# Altium footprint library zynq.PcbLib: 126 footprints (part 2 of 8)
Each footprint in its own frame and in the unit in brackets; x right, y up, seen from the top. Pads: shape width x height; smd on the part's side, far side on the other; paste and mask are expansions set on the pad; w line width, h text height; cw(c..) or ccw(c..) is an arc to the next point about the centre after c.
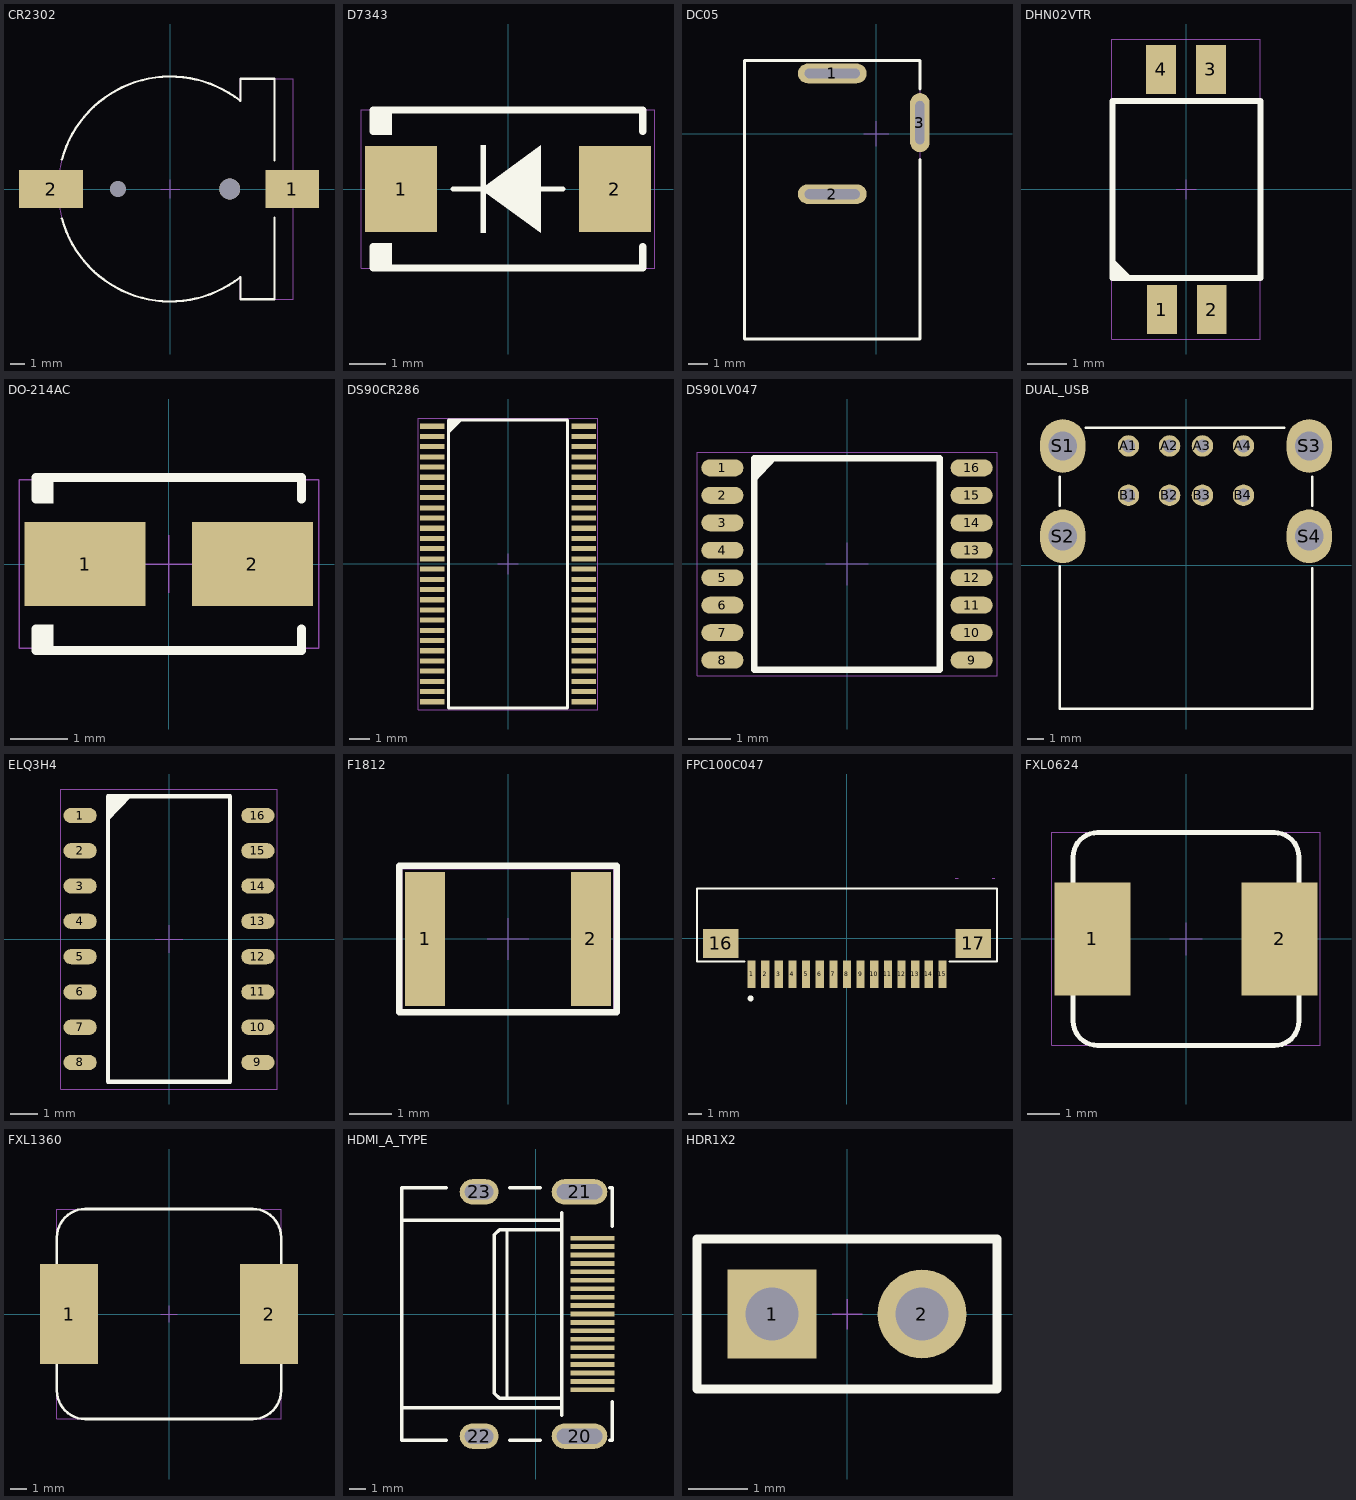
[diagram p1: the footprints below, top view; thin cyan lines are the x and y axes]

## CR2302 [mm]
pads (4):
  rect 3.6x2.55 smd: 1(8.17,0)
  rect 4.3x2.55 smd: 2(-8.01,0)
  round 1.05 hole 1.05 unplated: ""(-3.52,0)
  round 1.4 hole 1.4 unplated: ""(3.98,0)
Top Overlay:
  lines w0.152: -7.284,-1.987 ccw(c0,0) 4.686,-5.92 ; -7.284,1.987 cw(c0,0) 4.686,5.92 ; 4.699,-5.909 4.699,-7.4 6.985,-7.4 6.985,-1.905 ; 4.699,5.909 4.699,7.4 6.985,7.4 6.985,1.905
Mechanical 15:
  lines w0.025: -0.635,0 0.635,0 ; 0,-0.635 0,0.635 ; 4.686,-5.92 cw(c0,0) 4.699,5.909 4.699,7.4 8.255,7.4 8.255,-7.4 4.699,-7.4 4.699,-5.909

## D7343 [mm] "D7343"
pads (2):
  rect 2x2.4 smd: 1(-2.975,0) 2(2.975,0)
Top Overlay:
  rectangle: -0.762,-1.219 -0.61,1.219
  rectangle: -3.75,-2.2 -3.226,-1.499
  rectangle: -3.75,1.499 -3.226,2.2
  region: -0.762,0 0.914,1.219 0.914,-1.219
  lines w0.152: -1.524,0 -0.762,0 ; 0.914,0 1.524,0
  lines w0.2: -3.75,-1.6 -3.75,-2.2 3.75,-2.2 3.75,-1.6 ; -3.75,1.6 -3.75,2.2 3.75,2.2 3.75,1.6
Mechanical 15:
  lines w0.025: -0.5,0 0.5,0 ; 0,-0.5 0,0.5 ; -4.089,-2.2 4.089,-2.2 4.089,2.2 -4.089,2.2 -4.089,-2.2
3D body "7343-31-CASE-D-2917.STEP": height 2.92, standoff 0, extent -3.63,-2.166 3.681,2.134

## DC05 [mm]
pads (3):
  oval 3.5x1 hole 0.5 slot 2.8 at 0 deg: 1(-2.225,3.068) 2(-2.225,-3.067)
  oval 1x3 hole 0.45 slot 2.2 at 90 deg: 3(2.225,0.568)
Top Overlay:
  lines w0.152: 2.233,-1.32 2.233,-10.432 -6.683,-10.432 -6.683,3.724 2.233,3.724 2.233,2.282
Mechanical 15:
  lines w0.025: -0.635,0 0.635,0 ; 0,-0.635 0,0.635 ; -6.683,-10.432 2.233,-10.432 2.233,3.724 -6.683,3.724 -6.683,-10.432

## DHN02VTR [mm] "2 switch"
pads (4):
  rect 0.76x1.25 smd: 1(-0.626,-3.059) 2(0.644,-3.059) 3(0.626,3.059) 4(-0.644,3.059)
Top Overlay:
  region: -1.879,-1.753 -1.372,-2.261 -1.874,-2.261 -1.885,-2.25
  lines w0.152: -1.885,-2.25 1.885,-2.25 1.885,2.25 -1.885,2.25 -1.885,-2.25
Mechanical 15:
  lines w0.025: -0.254,0 0.254,0 ; 0,-0.254 0,0.254 ; -1.905,-3.81 1.88,-3.81 1.88,3.835 -1.905,3.835 -1.905,-3.81
3D body "dhn-02-v-tr.STEP": height 1.44, standoff -0.02, extent -1.885,-3.124 1.885,3.138

## DO-214AC [mm] "DO-214AC"
pads (2):
  rect 2.1x1.45 smd: 1(-1.45,0) 2(1.45,0)
Top Overlay:
  rectangle: -2.3,-1.5 -2.002,-1.046
  rectangle: -2.3,1.046 -2.002,1.5
  lines w0.152: -2.3,-1.125 -2.3,-1.5 2.3,-1.5 2.3,-1.125 ; -2.3,1.125 -2.3,1.5 2.3,1.5 2.3,1.125
Mechanical 15:
  lines w0.025: -0.5,0 0.5,0 ; 0,-0.5 0,0.5 ; -2.597,-1.46 2.603,-1.46 2.603,1.46 -2.597,1.46 -2.597,-1.46
3D body "do-214ac.STEP": height 2.06, standoff 0.01, extent -2.351,-1.324 2.351,1.346

## DS90CR286 [mm]
height 1.2
pads (56):
  rect 1.2x0.25 smd: 1(-3.7,6.75) 2(-3.7,6.25) 3(-3.7,5.75) 4(-3.7,5.25) 5(-3.7,4.75) 6(-3.7,4.25) 7(-3.7,3.75) 8(-3.7,3.25) 9(-3.7,2.75) 10(-3.7,2.25) 11(-3.7,1.75) 12(-3.7,1.25) 13(-3.7,0.75) 14(-3.7,0.25) 15(-3.7,-0.25) 16(-3.7,-0.75) 17(-3.7,-1.25) 18(-3.7,-1.75) 19(-3.7,-2.25) 20(-3.7,-2.75) 21(-3.7,-3.25) 22(-3.7,-3.75) 23(-3.7,-4.25) 24(-3.7,-4.75) 25(-3.7,-5.25) 26(-3.7,-5.75) 27(-3.7,-6.25) 28(-3.7,-6.75) 29(3.7,-6.75) 30(3.7,-6.25) 31(3.7,-5.75) 32(3.7,-5.25) 33(3.7,-4.75) 34(3.7,-4.25) 35(3.7,-3.75) 36(3.7,-3.25) 37(3.7,-2.75) 38(3.7,-2.25) 39(3.7,-1.75) 40(3.7,-1.25) 41(3.7,-0.75) 42(3.7,-0.25) 43(3.7,0.25) 44(3.7,0.75) 45(3.7,1.25) 46(3.7,1.75) 47(3.7,2.25) 48(3.7,2.75) 49(3.7,3.25) 50(3.7,3.75) 51(3.7,4.25) 52(3.7,4.75) 53(3.7,5.25) 54(3.7,5.75) 55(3.7,6.25) 56(3.7,6.75)
Top Overlay:
  region: -2.159,7.112 -2.921,6.35 -2.921,7.05
  lines w0.152: -2.921,-7.05 2.921,-7.05 2.921,7.05 -2.921,7.05 -2.921,-7.05
Mechanical 15:
  lines w0.025: -0.5,0 0.5,0 ; 0,-0.5 0,0.5 ; -4.4,-7.15 4.4,-7.15 4.4,7.15 -4.4,7.15 -4.4,-7.15
3D body "ds90cr286.STEP": height 1.1, standoff 0, extent -4.095,-7.044 4.066,6.956

## DS90LV047 [mm]
height 1.2
pads (16):
  oval 1x0.4 smd: 1(-2.95,2.275) 2(-2.95,1.625) 3(-2.95,0.975) 4(-2.95,0.325) 5(-2.95,-0.325) 6(-2.95,-0.975) 7(-2.95,-1.625) 8(-2.95,-2.275) 9(2.95,-2.275) 10(2.95,-1.625) 11(2.95,-0.975) 12(2.95,-0.325) 13(2.95,0.325) 14(2.95,0.975) 15(2.95,1.625) 16(2.95,2.275)
Top Overlay:
  region: -1.655,2.5 -2.2,2.5 -2.2,1.923
  lines w0.152: -2.2,-2.5 2.2,-2.5 2.2,2.5 -2.2,2.5 -2.2,-2.5
Mechanical 15:
  lines w0.025: -0.5,0 0.5,0 ; 0,-0.5 0,0.5 ; -3.55,-2.65 3.55,-2.65 3.55,2.65 -3.55,2.65 -3.55,-2.65
3D body "ds90lv047.STEP": height 1.2, standoff -0.02, extent -3.161,-2.515 3.263,2.487

## DUAL_USB [mil] "DUAL_USB"
pads (12):
  round 51.5 hole 31.5: A1(-137.8,285.36) A2(-39.37,285.36) A3(39.37,285.36) A4(137.8,285.36) B1(-137.8,167.25) B2(-39.37,167.25) B3(39.37,167.25) B4(137.8,167.25)
  oval 108.42x128.42 hole 68.42: S1(-295.28,285.36) S2(-295.28,68.82) S3(295.28,285.36) S4(295.28,68.82)
Top Overlay:
  lines w6: -303.15,-2.91 -303.15,-344.56 303.15,-344.56 303.15,-7.91 ; -303.15,142.09 -303.15,212.09 ; -240,328.67 235,328.67 ; 303.15,142.09 303.15,212.09

## ELQ3H4 [mm]
height 2
pads (16):
  oval 1.2x0.55 smd: 1(-3.2,4.445) 2(-3.2,3.175) 3(-3.2,1.905) 4(-3.2,0.635) 5(-3.2,-0.635) 6(-3.2,-1.905) 7(-3.2,-3.175) 8(-3.2,-4.445) 9(3.2,-4.445) 10(3.2,-3.175) 11(3.2,-1.905) 12(3.2,-0.635) 13(3.2,0.635) 14(3.2,1.905) 15(3.2,3.175) 16(3.2,4.445)
Top Overlay:
  region: -1.343,5.14 -2.2,5.14 -2.2,4.233
  lines w0.152: -2.2,-5.14 -2.2,5.14 2.2,5.14 2.2,-5.14 -2.2,-5.14
Mechanical 15:
  lines w0.025: -0.5,0 0.5,0 ; 0,-0.5 0,0.5 ; -3.9,-5.4 -3.9,5.4 3.9,5.4 3.9,-5.4 -3.9,-5.4

## ESD204 [mm]
pads (10):
  rrect45% 0.565x0.2 smd: 1(-3810.417,-3809) 2(-3810.417,-3809.5) 4(-3810.417,-3810.5) 5(-3810.417,-3811) 6(-3809.583,-3811) 7(-3809.583,-3810.5) 9(-3809.583,-3809.5) 10(-3809.583,-3809)
  rrect45% 0.565x0.4 smd: 3(-3810.417,-3810) 8(-3809.583,-3810)
Top Overlay:
  region: -3811.27,-3808.73 -3811.27,-3809.238 -3810.762,-3808.984
  lines w0.152: -3810.5,-3811.25 -3809.5,-3811.25 -3809.5,-3808.75 -3810.5,-3808.75 -3810.5,-3811.25
Mechanical 15:
  lines w0.025: -3810.254,-3810 -3809.746,-3810 ; -3810,-3810.254 -3810,-3809.746 ; -0.7,-1.27 -0.7,1.25 0.7,1.25 0.7,-1.27 -0.7,-1.27

## F1812 [mm] "FUSE_1812"
pads (2):
  rect 0.95x3.2 smd: 1(-1.975,0) 2(1.975,0)
Top Overlay:
  lines w0.152: -2.591,-1.75 2.591,-1.75 2.591,1.75 -2.591,1.75 -2.591,-1.75
Mechanical 15:
  lines w0.025: -0.5,0 0.5,0 ; 0,-0.5 0,0.5 ; -2.515,-1.676 2.515,-1.676 2.515,1.676 -2.515,1.676 -2.515,-1.676
3D body "F1812.STEP": height 1, standoff 0, extent -2.273,-1.612 2.277,1.628

## FPC100C047 [mm] "FPC100C047"
pads (17):
  rect 0.6x2 smd: 1(-7,-2.64) 2(-6,-2.64) 3(-5,-2.64) 4(-4,-2.64) 5(-3,-2.64) 6(-2,-2.64) 7(-1,-2.64) 8(0,-2.64) 9(1,-2.64) 10(2,-2.64) 11(3,-2.64) 12(4,-2.64) 13(5,-2.64) 14(6,-2.64) 15(7,-2.64)
  rect 2.6x2.1 smd: 16(-9.25,-0.39) 17(9.25,-0.39)
Top Overlay:
  circle w0.254: c-7.061,-4.42 r0.092
  lines w0.152: -7.517,-1.71 -11,-1.71 -11,3.64 11,3.64 11,-1.71 7.517,-1.71
Mechanical 11:
  lines w0.025: 7.952,4.391 8.155,4.391 ; 10.644,4.391 10.847,4.391

## FXL0624 [mm]
pads (2):
  rect 2.35x3.5 smd: 1(-2.9,0) 2(2.9,0)
Top Overlay:
  lines w0.152: 2.738,-3.304 ccw(c2.738,-2.542) 3.5,-2.542 3.5,2.538 ccw(c2.738,2.538) 2.738,3.3 -2.738,3.3 ccw(c-2.738,2.538) -3.5,2.538 -3.5,-2.538 ccw(c-2.738,-2.538) -2.738,-3.3 2.742,-3.3
Mechanical 15:
  lines w0.025: -0.5,0 0.5,0 ; 0,-0.5 0,0.5 ; -4.166,-3.302 -4.166,3.302 4.166,3.302 4.166,-3.302 -4.166,-3.302
3D body "FXL0630.STEP": height 2.35, standoff 0, extent -3.74,-3.302 3.74,3.298

## FXL1360 [mm]
pads (2):
  rect 3.5x6 smd: 1(-6,0) 2(6,0)
Top Overlay:
  lines w0.152: -6.725,-4.6 ccw(c-5.025,-4.6) -5.025,-6.3 5.025,-6.3 ccw(c5.025,-4.6) 6.725,-4.6 6.725,4.6 ccw(c5.025,4.6) 5.025,6.3 -5.025,6.3 ccw(c-5.025,4.6) -6.725,4.6 -6.725,-4.6
Mechanical 15:
  lines w0.025: -0.5,0 0.5,0 ; 0,-0.5 0,0.5 ; -6.725,-6.3 -6.725,6.3 6.725,6.3 6.725,-6.3 -6.725,-6.3
3D body "FXL1360.STEP": height 5.95, standoff 0, extent -6.965,-6.302 6.965,6.298

## HDMI_A_TYPE [mm] "HDMI_A_TYPE"
pads (23):
  rect 2.6x0.28 smd: 1(3.361,-4.5) 2(3.361,-4) 3(3.361,-3.5) 4(3.361,-3) 5(3.361,-2.5) 6(3.361,-2) 7(3.361,-1.5) 8(3.361,-1) 9(3.361,-0.5) 10(3.361,0) 11(3.361,0.5) 12(3.361,1) 13(3.361,1.5) 14(3.361,2) 15(3.361,2.5) 16(3.361,3) 17(3.361,3.5) 18(3.361,4) 19(3.361,4.5)
  oval 3.3x1.5 hole 2.7 slot 0.9 at 90 deg: 20(2.6,-7.25) 21(2.6,7.25)
  oval 2.3x1.5 hole 1.7 slot 0.9 at 90 deg: 22(-3.361,-7.25) 23(-3.361,7.25)
Top Overlay:
  lines w0.203: -7.951,-5.551 1.549,-5.551 ; -7.951,5.551 1.549,5.551 ; -5.297,-7.5 -7.951,-7.5 -7.951,7.5 -5.297,7.5 ; -1.706,-5 -1.706,5 ; -1.552,-7.5 0.266,-7.5 ; -1.552,7.5 0.266,7.5 ; 1.549,-6 1.549,6 ; 1.549,-5 -2.151,-5 -2.451,-4.7 -2.451,4.7 -2.151,5 1.549,5 ; 4.383,-7.5 4.549,-7.5 4.549,-5.214 ; 4.383,7.5 4.549,7.5 4.549,5.214

## HDR1X2 [mm] "Connector; Header; 5x2 Position"
pads (2):
  rect 1.5x1.5 hole 0.9: 1(-1.27,0)
  round 1.5 hole 0.9: 2(1.27,0)
Top Overlay:
  lines w0.152: -2.54,-1.27 -2.54,1.27 2.54,1.27 2.54,-1.27 -2.54,-1.27
Mechanical 15:
  lines w0.025: -0.254,0 0.254,0 ; 0,-0.254 0,0.254 ; -2.54,-1.27 -2.54,1.27 2.54,1.27 2.54,-1.27 -2.54,-1.27
3D body "header-2.54-1x2.STEP": height 9.3, standoff -2.2, extent -2.54,-1.25 2.54,1.25